# EAGLE library part MICROBUILDER_USB_C (library Adafruit USB Type C)
USB Type-C USB 2.0 Connector
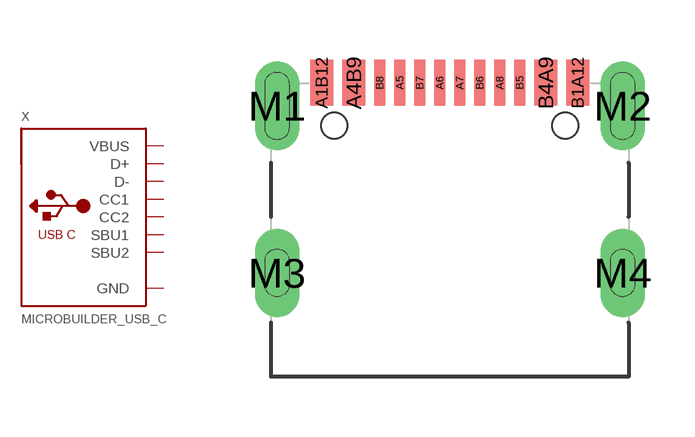
[diagram p1: symbol with the pads of MICROBUILDER_USB_C_CUSB31-CFM2AX-01-X; footprint MICROBUILDER_USB_C_CUSB31-CFM2AX-01-X]

Designator prefix X

## MICROBUILDER_USB_CUSB-C-RECEPTACLE  [MICROBUILDER_USB_C_CUSB31-CFM2AX-01-X]
A1B12  GND  pwr
A4B9  VBUS  pwr
A5  CC1
A6  D+
A7  D-
A8  SBU1
B1A12  GND  pwr
B4A9  VBUS  pwr
B5  CC2
B6  D+
B7  D-
B8  SBU2

## Footprint MICROBUILDER_USB_C_CUSB31-CFM2AX-01-X (pad centres in mm)
smd 0.575 x 1.15: A1B12 -3.2,7.355; A4B9 -2.4,7.355; B1A12 3.2,7.355; B4A9 2.4,7.355
smd 0.275 x 1.15: A5 -1.25,7.355; A6 -0.25,7.355; A7 0.25,7.355; A8 1.25,7.355; B5 1.75,7.355; B6 0.75,7.355; B7 -0.75,7.355; B8 -1.75,7.355
drill 0.6 pad 1 long: M1 -4.32,6.78; M2 4.32,6.78; M3 -4.32,2.6; M4 4.32,2.6
hole 0.65 at 2.89,6.28
hole 0.65 at -2.89,6.28